# Altium schematic symbol library Thyristor.SchLib: 1 symbol
Pins are listed as number, name and electrical type; pins without a type are passive.

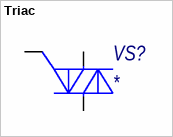
[diagram p0: symbol Triac]

## Triac
designator VS?
Value: *; Name: *; Body: *
footprint TO220 (The TO-220 package)
footprint TO220_HORIZONTAL (The TO-220 package HORIZONTAL)
pins: 1, 2, 3